# Altium footprint library footprint.PcbLib: 31 footprints (part 2 of 2)
Each footprint in its own frame and in the unit in brackets; x right, y up, seen from the top. Pads: shape width x height; smd on the part's side, far side on the other; paste and mask are expansions set on the pad; w line width, h text height; cw(c..) or ccw(c..) is an arc to the next point about the centre after c.
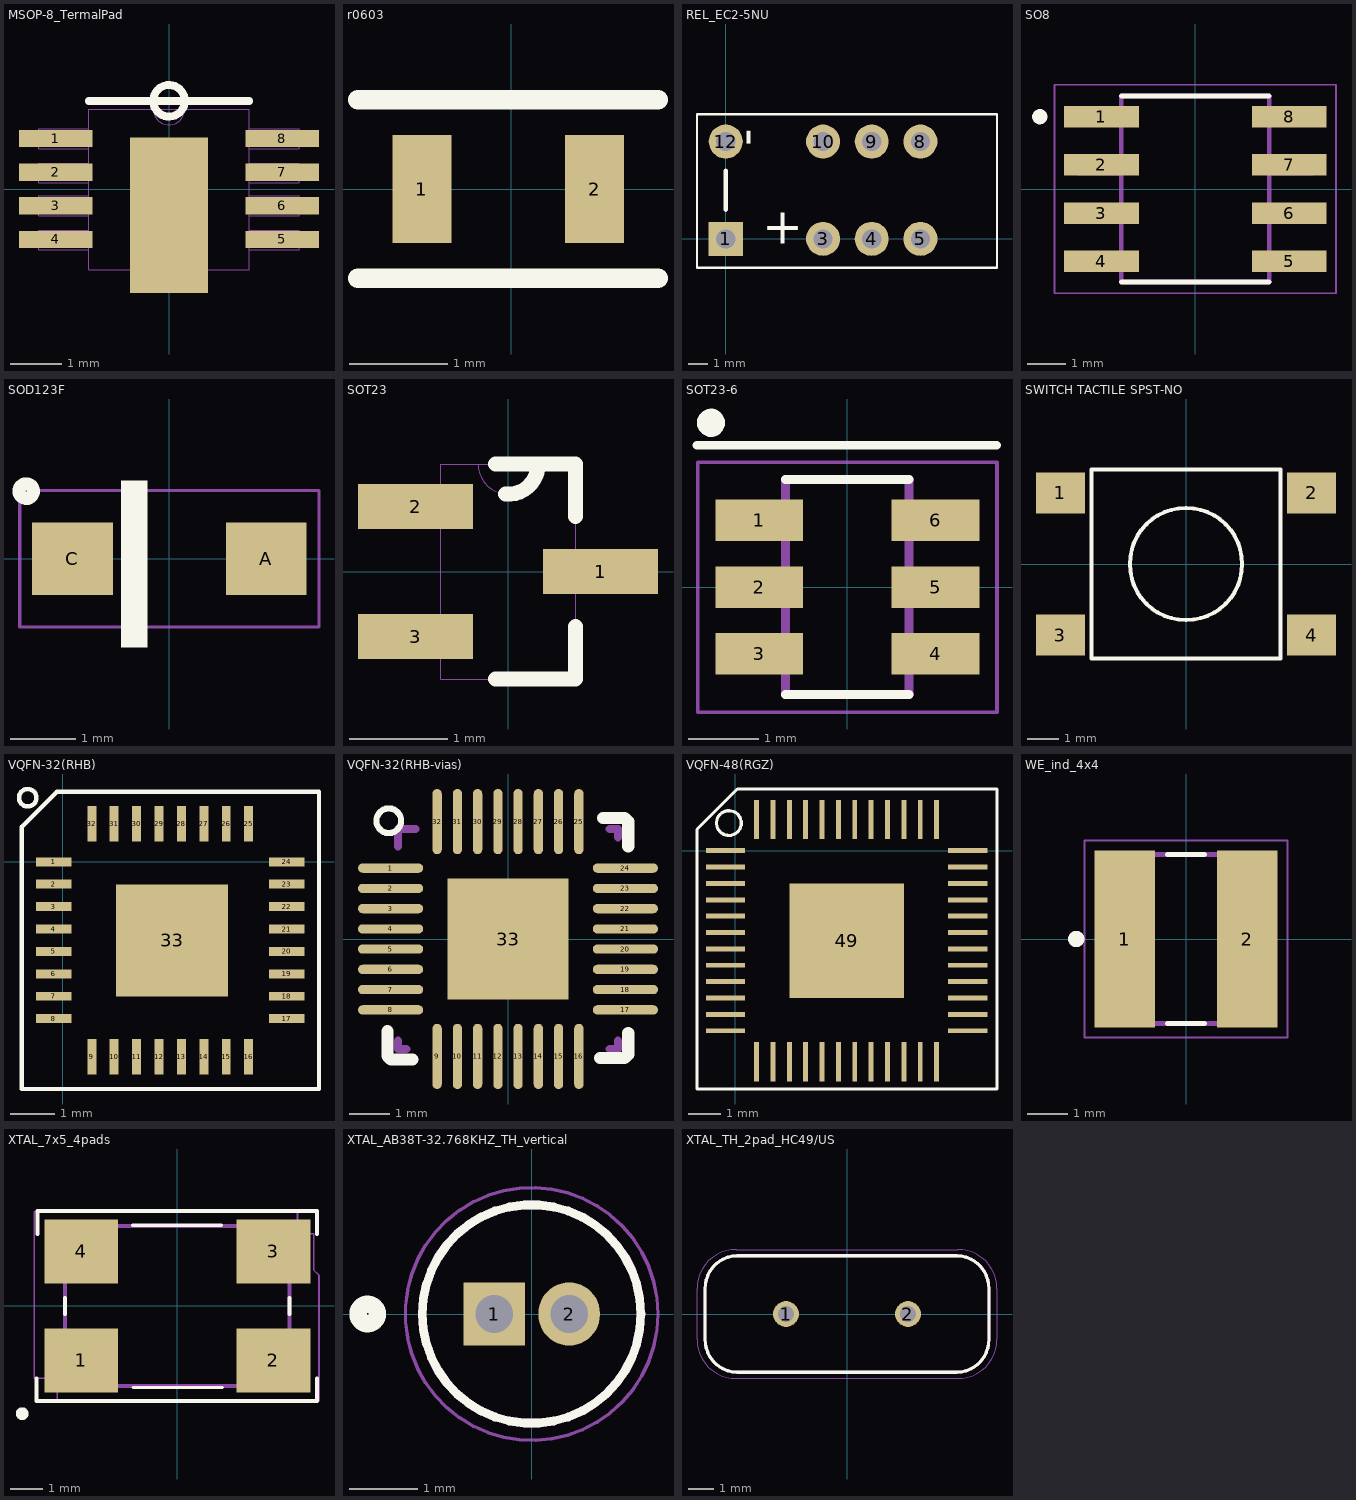
[diagram p1: the footprints below, top view; thin cyan lines are the x and y axes]

## MSOP-8_TermalPad [mil]
height 43.31
pads (9):
  rect 55.98x13.07 smd: 1(-86,38.58) 2(-86,13) 3(-86,-12.5) 4(-86,-38) 5(86,-38) 6(86,-12.5) 7(86,13) 8(86,38.58)
  rect 59.06x118.11 smd: ""(0,-19.68)
Top Overlay:
  circle w6: c0,67.3 r12
  lines w6: -61,67.3 -12,67.3 12,67.3 61,67.3
Mechanical 13:
  lines w0: -99,-46 -61,-46 ; -99,-46 -99,-31 ; -99,-46 -61,-46 ; -99,-46 -99,-31 ; -99,-31 -61,-31 ; -99,-31 -61,-31 ; -99,-20 -61,-20 ; -99,-20 -99,-5 ; -99,-20 -61,-20 ; -99,-20 -99,-5 ; -99,-5 -61,-5 ; -99,-5 -61,-5 ; -99,5 -61,5 ; -99,5 -99,20 ; -99,5 -61,5 ; -99,5 -99,20 ; -99,20 -61,20 ; -99,20 -61,20 ; -99,31 -61,31 ; -99,31 -99,46 ; -99,31 -61,31 ; -99,31 -99,46 ; -99,46 -61,46 ; -99,46 -61,46 ; -61,-61 -61,61 ; -61,-61 61,-61 ; -61,-61 -61,61 ; -61,-61 61,-61 ; -61,-46 -61,-31 ; -61,-46 -61,-31 ; -61,-20 -61,-5 ; -61,-20 -61,-5 ; -61,5 -61,20 ; -61,5 -61,20 ; -61,31 -61,46 ; -61,31 -61,46 ; -61,61 -12,61 ; -61,61 -12,61 ; -12,61 ccw(c0,61) 12,61 ; -12,61 ccw(c0,61) 12,61 ; -12,61 12,61 ; -12,61 12,61 ; 12,61 61,61 ; 12,61 61,61 ; 61,-61 61,61 ; 61,-61 61,61 ; 61,-46 99,-46 ; 61,-46 61,-31 ; 61,-46 99,-46 ; 61,-46 61,-31 ; 61,-31 99,-31 ; 61,-31 99,-31 ; 61,-20 99,-20 ; 61,-20 61,-5 ; 61,-20 99,-20 ; 61,-20 61,-5 ; 61,-5 99,-5 ; 61,-5 99,-5 ; 61,5 99,5 ; 61,5 61,20 ; 61,5 99,5 ; 61,5 61,20 ; 61,20 99,20 ; 61,20 99,20 ; 61,31 99,31 ; 61,31 61,46 ; 61,31 99,31 ; 61,31 61,46 ; 61,46 99,46 ; 61,46 99,46 ; 99,-46 99,-31 ; 99,-46 99,-31 ; 99,-20 99,-5 ; 99,-20 99,-5 ; 99,5 99,20 ; 99,5 99,20 ; 99,31 99,46 ; 99,31 99,46
3D body "MSOP8_noExposedPad.STEP": height 43.31, standoff 0, extent -97.64,-61.42 96.76,60.63

## r0603 [mm] "Resistor 0603"
height 0.6
pads (2):
  rect 0.6x1.1 smd: 1(-0.91,0) 2(0.85,0)
Top Overlay:
  lines w0.2: -1.56,-0.91 1.495,-0.91 ; -1.56,0.91 1.495,0.91
3D body "R0603.step": height 0.45, standoff 0, extent -0.8,-0.4 0.8,0.4

## REL_EC2-5NU [mil] "RELAY GEN PURPOSE DPDT 2A 5VDC"
height 370.08
pads (8):
  rect 70x70 hole 39.37: 1(0,0)
  round 70 hole 39.37: 3(200,0) 4(300,0) 5(400,0) 8(400,200) 9(300,200) 10(200,200) 12(0,200)
Top Overlay:
  lines w5: -59.06,-59.06 557.48,-59.06 557.48,255.91 -59.06,255.91 -59.06,-59.06
  lines w10: 0,60 0,140
  text "-" at 75,190.16 h73.82
  text "+" at 75,-9.84 h73.82
3D body "REL_EC2-5NU.STEP": height 354.33, standoff -141.73, extent -39.37,-48.03 551.18,247.24

## SO8 [mm]
pads (8):
  rect 1.97x0.57 smd: 1(-2.475,1.905) 2(-2.475,0.635) 3(-2.475,-0.635) 4(-2.475,-1.905) 5(2.475,-1.905) 6(2.475,-0.635) 7(2.475,0.635) 8(2.475,1.905)
Top Overlay:
  circle w0.2: c-4.1,1.905 r0.1
  lines w0.127: -1.95,-2.45 1.95,-2.45 ; -1.95,2.45 1.95,2.45
Mechanical 13:
  lines w0: -3.099,-2.159 -3.099,-1.651 ; -3.099,-2.159 -2.007,-2.159 ; -3.099,-2.159 -3.099,-1.651 ; -3.099,-2.159 -2.007,-2.159 ; -3.099,-1.651 -2.007,-1.651 ; -3.099,-1.651 -2.007,-1.651 ; -3.099,-0.889 -3.099,-0.381 ; -3.099,-0.889 -2.007,-0.889 ; -3.099,-0.889 -3.099,-0.381 ; -3.099,-0.889 -2.007,-0.889 ; -3.099,-0.381 -2.007,-0.381 ; -3.099,-0.381 -2.007,-0.381 ; -3.099,0.381 -3.099,0.889 ; -3.099,0.381 -2.007,0.381 ; -3.099,0.381 -3.099,0.889 ; -3.099,0.381 -2.007,0.381 ; -3.099,0.889 -2.007,0.889 ; -3.099,0.889 -2.007,0.889 ; -3.099,1.651 -3.099,2.159 ; -3.099,1.651 -2.007,1.651 ; -3.099,1.651 -3.099,2.159 ; -3.099,1.651 -2.007,1.651 ; -3.099,2.159 -2.007,2.159 ; -3.099,2.159 -2.007,2.159 ; -2.007,-2.159 -2.007,-1.651 ; -2.007,-2.159 -2.007,-1.651 ; -2.007,-0.889 -2.007,-0.381 ; -2.007,-0.889 -2.007,-0.381 ; -2.007,0.381 -2.007,0.889 ; -2.007,0.381 -2.007,0.889 ; -2.007,1.651 -2.007,2.159 ; -2.007,1.651 -2.007,2.159 ; 2.007,-2.159 2.007,-1.651 ; 2.007,-2.159 3.099,-2.159 ; 2.007,-2.159 2.007,-1.651 ; 2.007,-2.159 3.099,-2.159 ; 2.007,-1.651 3.099,-1.651 ; 2.007,-1.651 3.099,-1.651 ; 2.007,-0.889 2.007,-0.381 ; 2.007,-0.889 3.099,-0.889 ; 2.007,-0.889 2.007,-0.381 ; 2.007,-0.889 3.099,-0.889 ; 2.007,-0.381 3.099,-0.381 ; 2.007,-0.381 3.099,-0.381 ; 2.007,0.381 2.007,0.889 ; 2.007,0.381 3.099,0.381 ; 2.007,0.381 2.007,0.889 ; 2.007,0.381 3.099,0.381 ; 2.007,0.889 3.099,0.889 ; 2.007,0.889 3.099,0.889 ; 2.007,1.651 2.007,2.159 ; 2.007,1.651 3.099,1.651 ; 2.007,1.651 2.007,2.159 ; 2.007,1.651 3.099,1.651 ; 2.007,2.159 3.099,2.159 ; 2.007,2.159 3.099,2.159 ; 3.099,-2.159 3.099,-1.651 ; 3.099,-2.159 3.099,-1.651 ; 3.099,-0.889 3.099,-0.381 ; 3.099,-0.889 3.099,-0.381 ; 3.099,0.381 3.099,0.889 ; 3.099,0.381 3.099,0.889 ; 3.099,1.651 3.099,2.159 ; 3.099,1.651 3.099,2.159
  lines w0.127: -1.95,-2.45 1.95,-2.45 ; -1.95,-2.45 -1.95,2.45 ; -1.95,-2.45 1.95,-2.45 ; -1.95,-2.45 -1.95,2.45 ; -1.95,2.45 1.95,2.45 ; -1.95,2.45 1.95,2.45 ; 1.95,-2.45 1.95,2.45 ; 1.95,-2.45 1.95,2.45
Mechanical 15:
  lines w0.05: -3.71,-2.75 3.71,-2.75 3.71,2.75 -3.71,2.75 -3.71,-2.75
3D body "SO-8.STEP": height 1.45, standoff 0, extent -2.889,-2.451 2.889,2.451

## SOD123F [mm]
pads (2):
  rect 1.24x1.12 smd: A(1.49,0) C(-1.49,0)
Top Overlay:
  circle w0.2: c-2.2,1.04 r0.112
  region: -0.741,1.2 -0.339,1.2 -0.339,-1.36 -0.741,-1.36
Mechanical 15:
  lines w0.05: -2.3,-1.05 2.3,-1.05 2.3,1.05 -2.3,1.05 -2.3,-1.05
3D body "SOD-123FL.STEP": height 0.95, standoff 0.01, extent -1.794,-0.825 1.794,0.825

## SOT23 [mil]
pads (3):
  rect 46x18 smd: 1(37,0) 2(-37,26) 3(-37,-26)
Top Overlay:
  lines w6: -5,-43 27,-43 27,-22 ; -5,43 12,43 27,43 27,22 ; -1.04,31 ccw(c0.19,42.75) 12,42.96
Mechanical 13:
  lines w0: -43,-33 -27,-33 ; -43,-33 -43,-18 ; -43,-33 -27,-33 ; -43,-33 -43,-18 ; -43,-18 -27,-18 ; -43,-18 -27,-18 ; -43,18 -27,18 ; -43,18 -43,33 ; -43,18 -27,18 ; -43,18 -43,33 ; -43,33 -27,33 ; -43,33 -27,33 ; -27,-43 -27,-33 ; -27,-43 27,-43 ; -27,-43 -27,-33 ; -27,-43 27,-43 ; -27,-33 -27,-18 ; -27,-33 -27,-18 ; -27,-18 -27,18 ; -27,-18 -27,18 ; -27,18 -27,33 ; -27,18 -27,33 ; -27,33 -27,43 ; -27,33 -27,43 ; -27,43 -12,43 ; -27,43 -12,43 ; -12,43 ccw(c0,43) 12,43 ; -12,43 ccw(c0,43) 12,43 ; -12,43 12,43 ; -12,43 12,43 ; 12,43 27,43 ; 12,43 27,43 ; 27,-43 27,-8 ; 27,-43 27,-8 ; 27,-8 43,-8 ; 27,-8 27,8 ; 27,-8 43,-8 ; 27,-8 27,8 ; 27,8 43,8 ; 27,8 27,43 ; 27,8 43,8 ; 27,8 27,43 ; 43,-8 43,8 ; 43,-8 43,8
3D body "sot23.STEP": height 41.34, standoff -1.97, extent -41.34,-39.37 41.34,39.37

## SOT23-6 [mm]
pads (6):
  rect 1.25x0.59 smd: 1(-1.255,0.95) 2(-1.255,0) 3(-1.255,-0.95) 4(1.255,-0.95) 5(1.255,0) 6(1.255,0.95)
Top Overlay:
  circle w0.2: c-1.94,2.34 r0.1
  lines w0.127: -2.14,2.02 2.12,2.02 ; -0.88,-1.53 0.88,-1.53 ; -0.88,1.53 0.88,1.53
Mechanical 13:
  lines w0.127: -0.88,-1.53 -0.88,1.53 ; -0.88,-1.53 0.88,-1.53 ; -0.88,-1.53 -0.88,1.53 ; -0.88,-1.53 0.88,-1.53 ; -0.88,1.53 0.88,1.53 ; -0.88,1.53 0.88,1.53 ; 0.88,-1.53 0.88,1.53 ; 0.88,-1.53 0.88,1.53
Mechanical 15:
  lines w0.05: -2.13,-1.78 2.13,-1.78 2.13,1.78 -2.13,1.78 -2.13,-1.78
3D body "SOT23-6.STEP": height 1.45, standoff 0, extent -1.405,-1.45 1.405,1.45

## SWITCH TACTILE SPST-NO [mm]
pads (4):
  rect 1.55x1.3 smd: 1(-3.975,2.25) 2(3.975,2.25) 3(-3.975,-2.25) 4(3.975,-2.25)
Top Overlay:
  circle w0.127: c0,0 r1.778
  lines w0.127: -3,-3 3,-3 3,3 -3,3 -3,-3
3D body "SW_tactile_SMD.STEP": height 4.3, standoff 0, extent -4.5,-3 4.5,3

## VQFN-32(RHB) [mm]
pads (33):
  rect 0.8x0.2 smd: 1(-0.2,0) 2(-0.2,-0.5) 3(-0.2,-1) 4(-0.2,-1.5) 5(-0.2,-2) 6(-0.2,-2.5) 7(-0.2,-3) 8(-0.2,-3.5) 17(5,-3.5) 18(5,-3) 19(5,-2.5) 20(5,-2) 21(5,-1.5) 22(5,-1) 23(5,-0.5) 24(5,0)
  rect 0.2x0.8 smd: 9(0.65,-4.35) 10(1.15,-4.35) 11(1.65,-4.35) 12(2.15,-4.35) 13(2.65,-4.35) 14(3.15,-4.35) 15(3.65,-4.35) 16(4.15,-4.35) 25(4.15,0.85) 26(3.65,0.85) 27(3.15,0.85) 28(2.65,0.85) 29(2.15,0.85) 30(1.65,0.85) 31(1.15,0.85) 32(0.65,0.85)
  rect 2.5x2.5 smd: 33(2.44,-1.755)
Top Overlay:
  circle w0.1: c-0.78,1.43 r0.195
  lines w0.1: -0.91,-5.07 5.72,-5.07 5.72,1.56 -0.13,1.56 -0.91,0.78 -0.91,-5.07
3D body "VQFN-32_RHB.STEP": height 1, standoff 0, extent -0.095,-4.285 4.905,0.715

## VQFN-32(RHB-vias) [mm] "VQFN-32 + gnd pad, easy solderable, imported SnapEDA"
height 1
pads (33):
  oval 1.61x0.229 smd mask+0.052: 1(-2.9,1.75) 2(-2.9,1.25) 3(-2.9,0.75) 4(-2.9,0.25) 5(-2.9,-0.25) 6(-2.9,-0.75) 7(-2.9,-1.25) 8(-2.9,-1.75) 17(2.9,-1.75) 18(2.9,-1.25) 19(2.9,-0.75) 20(2.9,-0.25) 21(2.9,0.25) 22(2.9,0.75) 23(2.9,1.25) 24(2.9,1.75)
  oval 0.229x1.61 smd mask+0.052: 9(-1.75,-2.9) 10(-1.25,-2.9) 11(-0.75,-2.9) 12(-0.25,-2.9) 13(0.25,-2.9) 14(0.75,-2.9) 15(1.25,-2.9) 16(1.75,-2.9) 25(1.75,2.9) 26(1.25,2.9) 27(0.75,2.9) 28(0.25,2.9) 29(-0.25,2.9) 30(-0.75,2.9) 31(-1.25,2.9) 32(-1.75,2.9)
  rect 3x3 smd: 33(0,0)
Top Overlay:
  lines w0.152: -3.25,2.92 cw(c-2.945,2.92) -2.64,2.92 cw(c-2.945,2.92) -3.25,2.92
  lines w0.3: -2.98,-2.28 -2.98,-2.89 -2.89,-2.98 -2.36,-2.98 ; 2.27,-2.94 2.88,-2.94 2.97,-2.85 2.97,-2.32 ; 2.35,2.99 2.88,2.99 2.97,2.9 2.97,2.29
Top Paste:
  region: 0.102,0.102 1.575,0.102 1.575,1.575 0.102,1.575
  region: -0.102,1.575 -1.575,1.575 -1.575,0.102 -0.102,0.102
  region: -0.102,-0.102 -1.575,-0.102 -1.575,-1.575 -0.102,-1.575
  region: 0.102,-1.575 1.575,-1.575 1.575,-0.102 0.102,-0.102
Mechanical 1:
  lines w0.203: -2.718,-2.718 -2.718,-2.515 -2.718,-2.718 ; -2.718,-2.718 -2.515,-2.718 -2.718,-2.718 ; -2.718,2.718 -2.718,2.286 -2.718,2.718 ; -2.718,2.718 -2.286,2.718 -2.718,2.718 ; 2.718,-2.718 2.718,-2.515 2.718,-2.718 ; 2.718,-2.718 2.515,-2.718 2.718,-2.718 ; 2.718,2.718 2.515,2.718 2.718,2.718 ; 2.718,2.718 2.718,2.515 2.718,2.718
3D body: height 1, standoff 0, extent 0.54,0.42 0.54,0.42
3D body "VQFN-32_RHB.STEP": height 1, standoff 0, extent -2.46,-2.48 2.54,2.52

## VQFN-48(RGZ) [mm]
pads (49):
  rect 1.2x0.15 smd: 1(-0.3,0) 2(-0.3,-0.5) 3(-0.3,-1) 4(-0.3,-1.5) 5(-0.3,-2) 6(-0.3,-2.5) 7(-0.3,-3) 8(-0.3,-3.5) 9(-0.3,-4) 10(-0.3,-4.5) 11(-0.3,-5) 12(-0.3,-5.5) 25(7.1,-5.5) 26(7.1,-5) 27(7.1,-4.5) 28(7.1,-4) 29(7.1,-3.5) 30(7.1,-3) 31(7.1,-2.5) 32(7.1,-2) 33(7.1,-1.5) 34(7.1,-1) 35(7.1,-0.5) 36(7.1,0)
  rect 0.15x1.2 smd: 13(0.65,-6.45) 14(1.15,-6.45) 15(1.65,-6.45) 16(2.15,-6.45) 17(2.65,-6.45) 18(3.15,-6.45) 19(3.65,-6.45) 20(4.15,-6.45) 21(4.65,-6.45) 22(5.15,-6.45) 23(5.65,-6.45) 24(6.15,-6.45) 37(6.15,0.95) 38(5.65,0.95) 39(5.15,0.95) 40(4.65,0.95) 41(4.15,0.95) 42(3.65,0.95) 43(3.15,0.95) 44(2.65,0.95) 45(2.15,0.95) 46(1.65,0.95) 47(1.15,0.95) 48(0.65,0.95)
  rect 3.5x3.5 smd: 49(3.4,-2.75)
Top Overlay:
  circle w0.1: c-0.195,0.845 r0.379
  lines w0.1: -1.17,-7.28 -1.17,0.65 0.065,1.885 7.995,1.885 7.995,-7.28 -1.17,-7.28
3D body "VQFN-48_RGZ.STEP": height 1, standoff 0, extent -0.12,-6.23 6.88,0.77
3D body: height 0.8, standoff 0, extent 1.17,-0.065 1.17,-0.065

## WE_ind_4x4 [mm] "Inductor Wurth Electronic 4mmx4mm SMD  (74404043220A)"
pads (2):
  rect 1.5x4.4 smd: 1(-1.525,0) 2(1.525,0)
Top Overlay:
  circle w0.2: c-2.725,0 r0.1
  lines w0.127: -0.455,-2.1 0.455,-2.1 ; -0.455,2.1 0.455,2.1
Mechanical 13:
  circle w0.2: c-2.725,0 r0.1
  circle w0.2: c-2.725,0 r0.1
  lines w0.127: -2.1,-2.1 2.1,-2.1 ; -2.1,-2.1 -2.1,2.1 ; -2.1,-2.1 2.1,-2.1 ; -2.1,-2.1 -2.1,2.1 ; -2.1,2.1 2.1,2.1 ; -2.1,2.1 2.1,2.1 ; 2.1,-2.1 2.1,2.1 ; 2.1,-2.1 2.1,2.1
Mechanical 15:
  lines w0.05: -2.525,-2.45 2.525,-2.45 2.525,2.45 -2.525,2.45 -2.525,-2.45
3D body "IND_4x4_SMD.STEP": height 1.87, standoff -0.07, extent -2.03,-2 2.03,2

## XTAL_7x5_4pads [mm] "The CSM-8M is a miniature SMD Crystal with a 7.0 x 5.0 mm footprint."
height 1.3
pads (4):
  rect 2.3x2 smd: 1(-3,-1.7) 2(3,-1.7) 3(3,1.7) 4(-3,1.7)
Top Overlay:
  circle w0.2: c-4.84,-3.36 r0.1
  lines w0.1: -1.4,2.52 1.38,2.52 ; -1.38,-2.54 1.4,-2.54
  lines w0.127: -4.4,-2.26 -4.4,-2.96 4.36,-2.96 4.36,-2.26 ; -4.36,2.25 -4.36,2.96 4.36,2.96 4.36,2.25 ; -3.5,-0.25 -3.5,0.25 ; 3.5,-0.25 3.5,0.25
Mechanical 13:
  lines w0.127: -3.5,-2.5 -3.5,2.5 ; -3.5,-2.5 3.5,-2.5 ; -3.5,-2.5 -3.5,2.5 ; -3.5,-2.5 3.5,-2.5 ; -3.5,2.5 3.5,2.5 ; -3.5,2.5 3.5,2.5 ; 3.5,-2.5 3.5,2.5 ; 3.5,-2.5 3.5,2.5
Mechanical 15:
  lines w0.05: -3.75,-2.96 -3.75,-2.25 -4.46,-2.25 -4.46,2.25 -4.46,2.935 -3.73,2.94 3.75,2.94 3.75,2.25 4.25,2.25 4.25,1.125 4.42,0.955 4.42,-0.955 4.42,-1.576 4.42,-1.799 4.42,-2.96 1.895,-2.96 -1.855,-2.96 -3.73,-2.96
3D body "Crystal-XTAL-7x5-4pads.STEP": height 1.51, standoff -0.01, extent -3.5,-2.48 3.5,2.52

## XTAL_AB38T-32.768KHZ_TH_vertical [mm] "CRYSTAL TH vertical  32.7680KHZ 12.5PF"
height 0.68
pads (2):
  rect 0.9x0.925 hole 0.55: 1(-0.55,0)
  oval 0.9x0.925 hole 0.55: 2(0.55,0)
Top Overlay:
  circle w0.127: c0,0 r1.6
  circle w0.254: c-2.4,0 r0.141
Mechanical 13:
  circle w0.127: c0,0 r1.6
  circle w0.127: c0,0 r1.6
Mechanical 15:
  circle w0.05: c0,0 r1.85
3D body "Crystal_TH_vertical.STEP": height 8.27, standoff -2.5, extent -1.745,-1.6 1.705,1.6

## XTAL_TH_2pad_HC49/US [mm] "Crystal 11,50 x 5,00mm TH 2 pads,"
height 3.5
pads (2):
  round 1.03 hole 0.63: 1(-2.44,0) 2(2.44,0)
Top Overlay:
  lines w0.127: -5.675,-1.012 ccw(c-4.38,-1.035) -4.403,-2.33 ; -5.675,-1.01 -5.675,1.01 ; -5.675,1.012 cw(c-4.38,1.035) -4.403,2.33 ; -4.405,-2.33 4.405,-2.33 ; -4.405,2.33 4.405,2.33 ; 4.403,-2.33 ccw(c4.38,-1.035) 5.675,-1.012 ; 4.403,2.33 cw(c4.38,1.035) 5.675,1.012 ; 5.675,-1.01 5.675,1.01
Mechanical 13:
  lines w0.127: -5.675,-1.012 ccw(c-4.38,-1.035) -4.403,-2.33 cw(c-4.38,-1.035) -5.675,-1.012 ; -5.675,-1.01 -5.675,1.01 -5.675,-1.01 ; -5.675,1.012 cw(c-4.38,1.035) -4.403,2.33 ccw(c-4.38,1.035) -5.675,1.012 ; -4.405,-2.33 4.405,-2.33 -4.405,-2.33 ; -4.405,2.33 4.405,2.33 -4.405,2.33 ; 4.403,-2.33 ccw(c4.38,-1.035) 5.675,-1.012 cw(c4.38,-1.035) 4.403,-2.33 ; 4.403,2.33 cw(c4.38,1.035) 5.675,1.012 ccw(c4.38,1.035) 4.403,2.33 ; 5.675,-1.01 5.675,1.01 5.675,-1.01
Mechanical 15:
  lines w0.05: -6,-1.01 ccw(c-4.43,-1.01) -4.43,-2.58 4.43,-2.58 ccw(c4.43,-1.01) 6,-1.01 6,1.01 ccw(c4.43,1.01) 4.43,2.58 -4.43,2.58 ccw(c-4.43,1.01) -6,1.01 -6,-1.01
3D body "Crystal-XTAL-11x5-2padsTH_abl-HC49-US.STEP": height 3.5, standoff -4, extent -5.74,-2.5 5.76,2.5